# Altium schematic symbol library Diodes.SchLib: 4 symbols
Pins are listed as number, name and electrical type; pins without a type are passive.

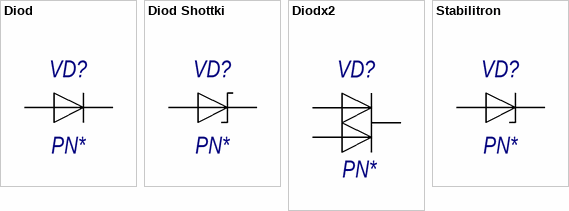
[diagram p0: symbols Diod to Stabilitron]

## Diod
designator VD?  Part Number: PN*  (hidden comment: *)
pins: 1, 2

## Diod Shottki
designator VD?  Part Number: PN*  (hidden comment: *)
pins: 1, 2

## Diodx2
designator VD?  Part Number: PN*  (hidden comment: *)
pins: 1, 2, 3

## Stabilitron
designator VD?  Part Number: PN*  (hidden comment: *)
pins: 1, 2